# EAGLE library part ASSR-1530_SSR (library MeRCIS Lab Parts)
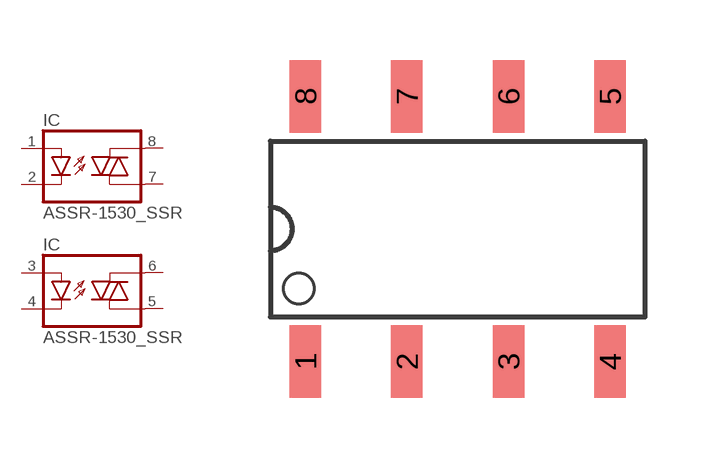
[diagram p5: symbol with the pads of ASSR-1530_SO8; footprint ASSR-1530_SO8]

Designator prefix IC

## ASSR-1530_SSR  [ASSR-1530_SO8]
1  1  pas
2  2  pas
3  3  pas
4  4  pas
5  5  pas
6  6  pas
7  7  pas
8  8  pas

## Footprint ASSR-1530_SO8 (pad centres in mm)
smd 0.787 x 1.816: 1 -3.823,-3.327; 2 -1.283,-3.327; 3 1.257,-3.327; 4 3.797,-3.327; 5 3.797,3.302; 6 1.257,3.302; 7 -1.283,3.302; 8 -3.823,3.302